# EAGLE library part 74*574 (library F030NG)
8-bit D type FLIP FLOP bus driver
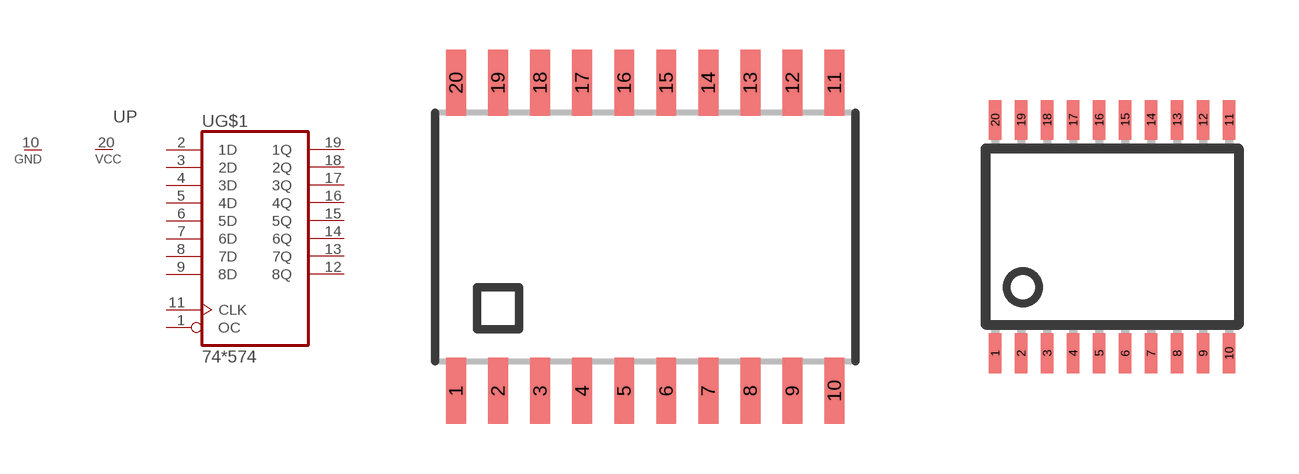
[diagram p57: symbol with the pads of SOIC20; footprints SOIC20, TSSOP20]

Designator prefix U; gates G$1=74574 P=1VCC_1GND

## 74AC574D(W), 74ACT574D(W), 74HC574D(W), 74HCT574D(W), 74LS574D(W)  [SOIC20]
1  G$1:OC  in
2  G$1:1D  in
3  G$1:2D  in
4  G$1:3D  in
5  G$1:4D  in
6  G$1:5D  in
7  G$1:6D  in
8  G$1:7D  in
9  G$1:8D  in
10  P:GND  pwr
11  G$1:CLK  in
12  G$1:8Q  hiz
13  G$1:7Q  hiz
14  G$1:6Q  hiz
15  G$1:5Q  hiz
16  G$1:4Q  hiz
17  G$1:3Q  hiz
18  G$1:2Q  hiz
19  G$1:1Q  hiz
20  P:VCC  pwr

## 74574PWR, 74AC574PWR, 74ACT574PWR, 74HC574PWR, 74HCT574PWR, 74LS574PWR  [TSSOP20]
Pads as for SOIC20

## 74574D, 74AC574D, 74ACT574D, 74HC574D, 74HCT574D, 74LS574D  [SO20]
Pads as for SOIC20

## Footprint SOIC20 (pad centres in mm)
SMALL OUTLINE INTEGRATED CIRCUIT 7,6 mm wide body
smd 0.6 x 2: 1 -5.715,-4.65; 2 -4.445,-4.65; 3 -3.175,-4.65; 4 -1.905,-4.65; 5 -0.635,-4.65; 6 0.635,-4.65; 7 1.905,-4.65; 8 3.175,-4.65; 9 4.445,-4.65; 10 5.715,-4.65; 11 5.715,4.65; 12 4.445,4.65; 13 3.175,4.65; 14 1.905,4.65; 15 0.635,4.65; 16 -0.635,4.65; 17 -1.905,4.65; 18 -3.175,4.65; 19 -4.445,4.65; 20 -5.715,4.65

## Footprint TSSOP20 (pad centres in mm)
Shrink Small Outline Plastic 16
smd 0.305 x 0.991: 1 -2.925,-2.918; 2 -2.275,-2.918; 3 -1.625,-2.918; 4 -0.975,-2.918; 5 -0.325,-2.918; 6 0.325,-2.918; 7 0.975,-2.918; 8 1.625,-2.918; 9 2.275,-2.918; 10 2.925,-2.918; 11 2.925,2.918; 12 2.275,2.918; 13 1.625,2.918; 14 0.975,2.918; 15 0.325,2.918; 16 -0.325,2.918; 17 -0.975,2.918; 18 -1.625,2.918; 19 -2.275,2.918; 20 -2.925,2.918

## Footprint SO20 (pad centres in mm)
SMALL OUTLINE INTEGRATED CIRCUIT body 5.3 mm/JEDEC MS-012AA
smd 0.6 x 2.2: 1 -5.715,-3.35; 2 -4.445,-3.35; 3 -3.175,-3.35; 4 -1.905,-3.35; 5 -0.635,-3.35; 6 0.635,-3.35; 7 1.905,-3.35; 8 3.175,-3.35; 9 4.445,-3.35; 10 5.715,-3.35; 11 5.715,3.35; 12 4.445,3.35; 13 3.175,3.35; 14 1.905,3.35; 15 0.635,3.35; 16 -0.635,3.35; 17 -1.905,3.35; 18 -3.175,3.35; 19 -4.445,3.35; 20 -5.715,3.35